# EAGLE library part 112A-TAAR-R02_MICROSD (library con-attend)
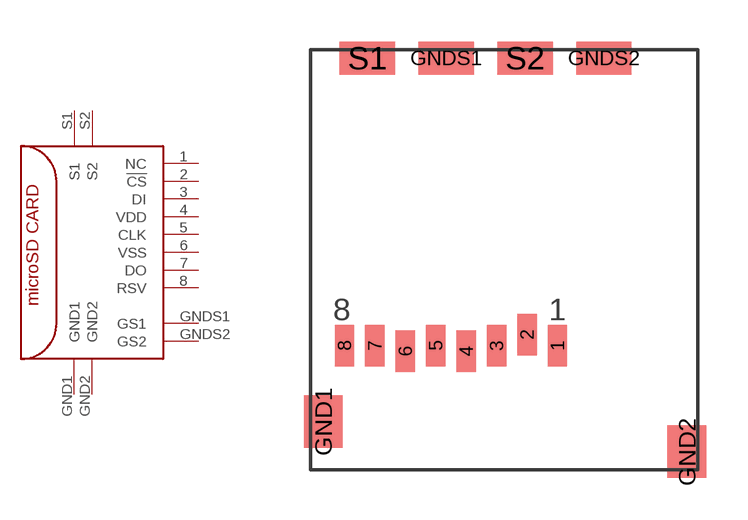
[diagram p0: symbol with the pads of 112A-TAAR-R02; footprint 112A-TAAR-R02]

Designator prefix -

## 112A-TAAR-R02_MICROSD  [112A-TAAR-R02]
1  NC
2  !CS
3  DI
4  VDD
5  CLK
6  VSS
7  DO
8  RSV
GND1  GND1
GND2  GND2
GNDS1  GS1
GNDS2  GS2
S1  S1
S2  S2

## Footprint 112A-TAAR-R02 (pad centres in mm)
smd 0.7 x 1.5: 1 8.92,4.5; 2 7.82,4.9; 3 6.72,4.5; 4 5.62,4.3; 5 4.52,4.5; 6 3.42,4.3; 7 2.32,4.5; 8 1.22,4.5
smd 1.4 x 1.9: GND1 0.45,1.75; GND2 13.6,0.66
smd 2 x 1.2: GNDS1 4.9,14.9; GNDS2 10.6,14.9; S1 2.05,14.9; S2 7.75,14.9